# EAGLE library part CPC5902 (library ERIC)
Optically Isolated I2C Bus Repeater
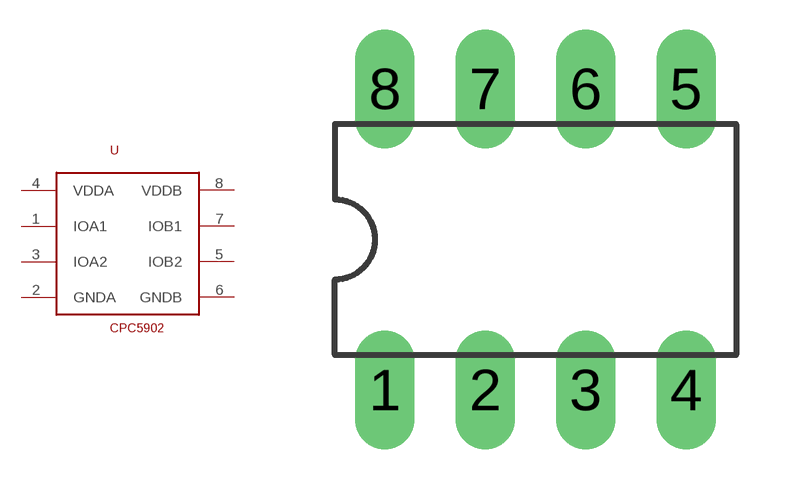
[diagram p34: symbol with the pads of DIP8; footprint DIP8]

Designator prefix -

## CPC5902  [DIP8]
1  IOA1
2  GNDA  pwr
3  IOA2
4  VDDA
5  IOB2
6  GNDB
7  IOB1
8  VDDB

## Footprint DIP8 (pad centres in mm)
drill 0.813 pad 1.5 long: 1 -3.81,-3.81; 2 -1.27,-3.81; 3 1.27,-3.81; 4 3.81,-3.81; 5 3.81,3.81; 6 1.27,3.81; 7 -1.27,3.81; 8 -3.81,3.81